# Altium footprint library Capacitors.PcbLib: 10 footprints
Each footprint in its own frame and in the unit in brackets; x right, y up, seen from the top. Pads: shape width x height; smd on the part's side, far side on the other; paste and mask are expansions set on the pad; w line width, h text height; cw(c..) or ccw(c..) is an arc to the next point about the centre after c.
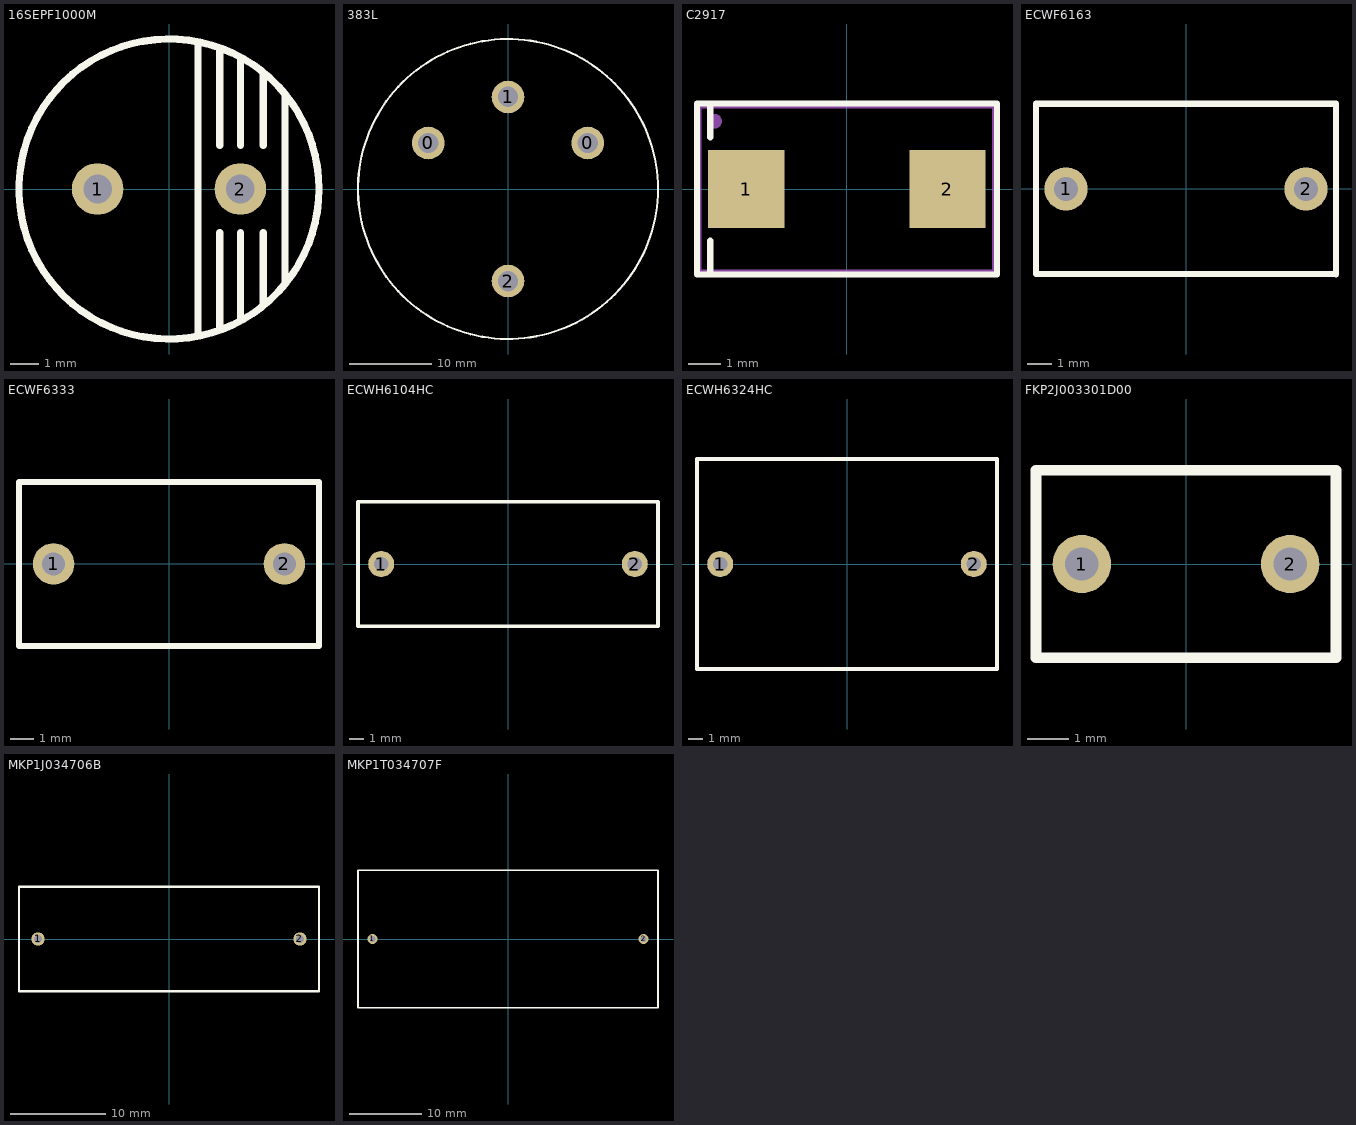
[diagram p0: the footprints below, top view; thin cyan lines are the x and y axes]

## 16SEPF1000M [mm]
height 13
pads (2):
  round 1.8 hole 1: 1(-2.5,0) 2(2.5,0)
Top Overlay:
  circle w0.254: c0,0 r5.25
  lines w0.254: 1.016,-5.08 1.016,5.08 ; 1.778,-4.826 1.778,-1.524 ; 1.778,1.524 1.778,4.826 ; 2.5,-4.572 2.5,-1.524 ; 2.5,1.524 2.5,4.572 ; 3.302,-4.064 3.302,-1.524 ; 3.302,1.524 3.302,4.064 ; 4.064,-3.302 4.064,3.302
3D body: height 20.24, standoff -18.75, extent -5,-5 5,5

## 383L [mm] "383LX102M400A082"
pads (4):
  round 4 hole 2.5: 0(-9.743,5.625) 0(9.743,5.625) 1(0,11.25) 2(0,-11.25)
Top Overlay:
  circle w0.254: c0,0 r18.337
3D body: height 82, standoff 0, extent -17.362,-17.465 17.5,17.466

## C2917 [mm] "Creator MM. Footprint density lvl B"
height 3.1
pads (2):
  rect 2.37x2.43 smd: 1(-3.12,0) 2(3.12,0)
Top Overlay:
  lines w0.2: -4.24,-2.65 -4.24,-1.6 ; -4.24,1.6 -4.24,2.65 ; -4.645,-2.65 4.655,-2.65 4.655,2.65 -4.645,2.65 -4.645,-2.65
Mechanical 29:
  circle w0.254: c-4.1,2.1 r0.1
  lines w0.2: -4.6,-2.6 -4.6,2.6 4.6,2.6 4.6,-2.6 -4.6,-2.6
  text ".Designator" at -2.1,-0.9 h1.52
3D body: height 3.1, standoff 0, extent -3.795,-2.3 3.805,2.3

## ECWF6163 [mm]
height 8.9
pads (2):
  round 1.8 hole 1: 1(-5,0) 2(5,0)
Top Overlay:
  lines w0.254: 6.25,-3.556 6.25,3.55 -6.25,3.55 -6.25,-3.55 6.25,-3.55
3D body: height 8.9, standoff 0.1, extent -6.25,-3.556 6.25,3.55

## ECWF6333 [mm]
height 10
pads (2):
  round 1.8 hole 1: 1(-5,0) 2(5,0)
Top Overlay:
  lines w0.254: 6.5,-3.556 6.5,3.55 -6.5,3.55 -6.5,-3.55 6.5,-3.55
3D body: height 10, standoff 0.1, extent -6.5,-3.556 6.5,3.55

## ECWH6104HC [mm]
height 13.5
pads (2):
  round 1.8 hole 1: 1(-8.75,0) 2(8.75,0)
Top Overlay:
  lines w0.254: -10.35,-4.3 -10.35,4.3 10.35,4.3 10.35,-4.3 -10.35,-4.3
3D body: height 13.5, standoff 0.1, extent -10.35,-4.3 10.35,4.3

## ECWH6324HC [mm]
height 21
pads (2):
  round 1.8 hole 1: 1(-8.75,0) 2(8.75,0)
Top Overlay:
  lines w0.254: -10.35,-7.25 -10.35,7.25 10.35,7.25 10.35,-7.25 -10.35,-7.25
3D body: height 21, standoff 0.1, extent -10.35,-7.25 10.35,7.25

## FKP2J003301D00 [mm]
height 6
pads (2):
  round 1.4 hole 0.8: 1(-2.5,0) 2(2.5,0)
Top Overlay:
  lines w0.254: -3.6,-2.25 3.6,-2.25 3.6,2.25 -3.6,2.25 -3.6,-2.25
3D body: height 6, standoff 0.1, extent -3.6,-2.25 3.6,2.25

## MKP1J034706B [mm]
pads (2):
  round 1.4 hole 0.8: 1(-13.75,0) 2(13.75,0)
Top Overlay:
  lines w0.254: -15.75,-5.5 15.75,-5.5 15.75,5.5 -15.75,5.5 -15.75,-5.5
3D body: height 21.1, standoff 0.1, extent -15.75,-5.5 15.75,5.5

## MKP1T034707F [mm]
pads (2):
  round 1.4 hole 0.8: 1(-18.75,0) 2(18.75,0)
Top Overlay:
  lines w0.254: -20.75,-9.5 -20.75,9.5 20.75,9.5 20.75,-9.5 -20.75,-9.5
3D body: height 32.1, standoff 0.1, extent -20.75,-9.5 20.75,9.5